# Altium footprint library LoRaUNO868 V2.PcbLib: 23 footprints (part 2 of 2)
Each footprint in its own frame and in the unit in brackets; x right, y up, seen from the top. Pads: shape width x height; smd on the part's side, far side on the other; paste and mask are expansions set on the pad; w line width, h text height; cw(c..) or ccw(c..) is an arc to the next point about the centre after c.
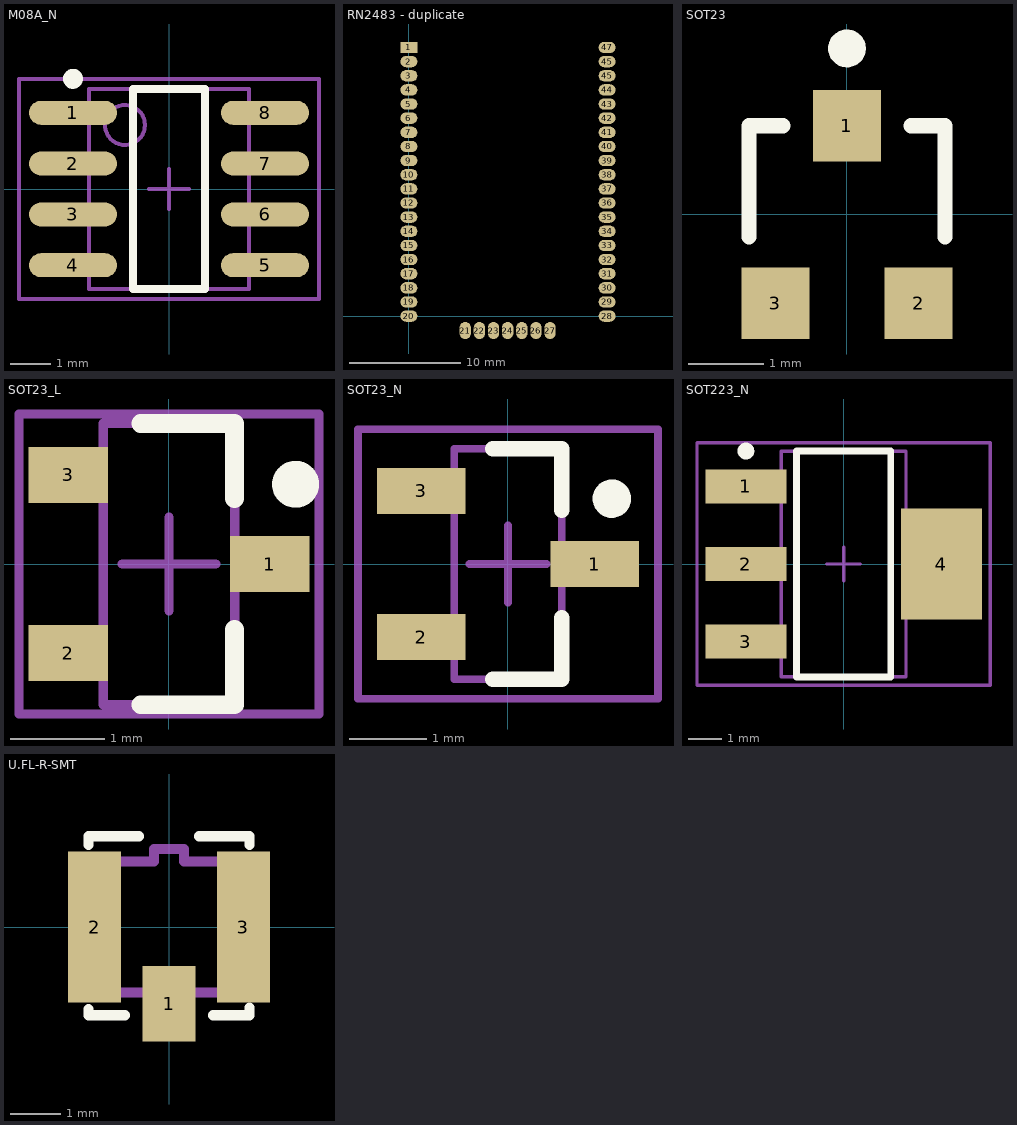
[diagram p1: the footprints below, top view; thin cyan lines are the x and y axes]

## M08A_N [mm] "SOIC, 8-Leads, Body 4.9x3.9mm, Pitch 1.27mm, IPC Medium Density"
height 1.75
pads (8):
  oval 2.2x0.6 smd: 1(-2.4,1.905) 2(-2.4,0.635) 3(-2.4,-0.635) 4(-2.4,-1.905) 5(2.4,-1.905) 6(2.4,-0.635) 7(2.4,0.635) 8(2.4,1.905)
Top Overlay:
  circle w0.25: c-2.4,2.755 r0.125
  lines w0.2: -0.9,-2.5 -0.9,2.5 0.9,2.5 0.9,-2.5 -0.9,-2.5
Mechanical 13:
  circle w0.1: c-1.1,1.6 r0.5
  lines w0.1: -2,-2.5 -2,2.5 2,2.5 2,-2.5 -2,-2.5
Mechanical 15:
  lines w0.1: -0.5,0 0.5,0 ; 0,-0.5 0,0.5 ; -3.75,-2.75 -3.75,2.75 3.75,2.75 3.75,-2.75 -3.75,-2.75
3D body: height 1.75, standoff 0, extent -2,-2.5 2,2.5

## RN2483 - duplicate [mil]
pads (47):
  rect 60x40 smd: 1(0,949.8)
  oval 60x40 smd: 2(0,899.8) 3(0,849.8) 4(0,799.8) 5(0,749.8) 6(0,699.8) 7(0,649.8) 8(0,599.8) 9(0,549.8) 10(0,499.8) 11(0,449.8) 12(0,399.8) 13(0,349.8) 14(0,299.8) 15(0,249.8) 16(0,199.8) 17(0,149.8) 18(0,99.8) 19(0,49.8) 20(0,-0.2) 28(700.79,-0.2) 29(700.79,49.8) 30(700.79,99.8) 31(700.79,149.8) 32(700.79,199.8) 33(700.79,249.8) 34(700.79,299.8) 35(700.79,349.8) 36(700.79,399.8) 37(700.79,449.8) 38(700.79,499.8) 39(700.79,549.8) 40(700.79,599.8) 41(700.79,649.8) 42(700.79,699.8) 43(700.79,749.8) 44(700.79,799.8) 45(700.79,849.8) 45(700.79,899.8) 47(700.79,949.8)
  oval 40x60 smd: 21(199.21,-51.18) 22(249.21,-51.18) 23(299.21,-51.18) 24(349.21,-51.18) 25(399.21,-51.18) 26(449.21,-51.18) 27(499.21,-51.18)
3D body: height 31.5, standoff 0, extent 0,-48.23 699.8,973.43
3D body: height 70.87, standoff 39.37, extent 29.53,48.23 669.29,949.8

## SOT23 [mm] "SOT-23; 3 Leads; Body 3.1 x 2.5 mm, inc. leads (LxW max), Alternate Lead Configuration"
height 1.1
pads (3):
  rect 0.9x0.95 smd: 1(0,1.175) 2(0.95,-1.175) 3(-0.95,-1.175)
Top Overlay:
  circle w0.25: c0,2.2 r0.125
  lines w0.2: -1.3,-0.3 -1.3,1.175 -0.85,1.175 ; 0.85,1.175 1.3,1.175 1.3,-0.3

## SOT23_L [mm] "SOT23, 3-Leads, Body 2.9x1.3mm, Pitch 0.95mm, Lead Span 2.3mm - Reverse Pinning, IPC High Density"
height 1.1
pads (3):
  rect 0.85x0.6 smd: 1(1.075,0) 2(-1.075,-0.95) 3(-1.075,0.95)
Top Overlay:
  circle w0.25: c1.35,0.85 r0.125
  lines w0.2: -0.3,-1.5 0.7,-1.5 0.7,-0.7 ; -0.3,1.5 0.7,1.5 0.7,0.7
Mechanical 13:
  lines w0.1: -0.7,-1.5 -0.7,1.5 0.7,1.5 0.7,-1.5 -0.7,-1.5
Mechanical 15:
  lines w0.1: -0.5,0 0.5,0 ; 0,-0.5 0,0.5 ; -1.6,-1.6 -1.6,1.6 1.6,1.6 1.6,-1.6 -1.6,-1.6
3D body: height 1.1, standoff 0, extent -0.7,-1.5 0.7,1.5

## SOT23_N [mm] "SOT23, 3-Leads, Body 2.9x1.3mm, Pitch 0.95mm, Lead Span 2.3mm - Reverse Pinning, IPC Medium Density"
height 1.1
pads (3):
  rect 1.15x0.6 smd: 1(1.125,0) 2(-1.125,-0.95) 3(-1.125,0.95)
Top Overlay:
  circle w0.25: c1.35,0.85 r0.125
  lines w0.2: -0.2,-1.5 0.7,-1.5 0.7,-0.7 ; -0.2,1.5 0.7,1.5 0.7,0.7
Mechanical 13:
  lines w0.1: -0.7,-1.5 -0.7,1.5 0.7,1.5 0.7,-1.5 -0.7,-1.5
Mechanical 15:
  lines w0.1: -0.5,0 0.5,0 ; 0,-0.5 0,0.5 ; -1.95,-1.75 -1.95,1.75 1.95,1.75 1.95,-1.75 -1.95,-1.75
3D body: height 1.1, standoff 0, extent -0.7,-1.5 0.7,1.5

## SOT223_N [mm] "SOT223, 4-Leads, Body 6.5x3.5mm, Pitch 2.3mm, Lead Span 7mm, IPC Medium Density"
height 1.7
pads (4):
  rect 2.4x1 smd: 1(-2.9,2.3) 2(-2.9,0) 3(-2.9,-2.3)
  rect 2.4x3.3 smd: 4(2.9,0)
Top Overlay:
  circle w0.25: c-2.9,3.35 r0.125
  lines w0.2: -1.4,-3.35 1.4,-3.35 1.4,3.35 -1.4,3.35 -1.4,-3.35
Mechanical 13:
  lines w0.1: -1.85,-3.35 1.85,-3.35 1.85,3.35 -1.85,3.35 -1.85,-3.35
Mechanical 15:
  lines w0.1: -0.5,0 0.5,0 ; 0,-0.5 0,0.5 ; -4.35,-3.6 4.35,-3.6 4.35,3.6 -4.35,3.6 -4.35,-3.6
3D body: height 1.7, standoff 0, extent -1.85,-3.35 1.85,3.35

## U.FL-R-SMT [mm]
height 6.95
pads (3):
  rect 1.05x1.5 smd: 1(0,-1.525)
  rect 1.05x3 smd: 2(-1.475,0) 3(1.475,0)
Top Overlay:
  lines w0.2: -1.6,-1.625 -1.6,-1.75 -0.875,-1.75 ; -1.6,1.625 -1.6,1.8 -0.6,1.8 ; 0.6,1.8 1.6,1.8 1.6,1.625 ; 0.875,-1.75 1.6,-1.75 1.6,-1.6
Mechanical 3:
  lines w0.2: -1.311,-0.9 -1.5,-0.9 -1.5,0.9 -1.311,0.9 ; -1.3,-0.9 -1.3,-1.3 -0.33,-1.3 ; -1.3,0.9 -1.3,1.3 -0.3,1.3 -0.3,1.55 0.3,1.55 0.3,1.3 1.3,1.3 1.3,0.9 ; -0.3,-1.3 -0.3,-1.55 0.3,-1.55 0.3,-1.3 ; 0.33,-1.3 1.3,-1.3 1.3,-0.9 ; 1.311,-0.9 1.5,-0.9 1.5,0.9 1.311,0.9
3D body: height 1.25, standoff 0, extent -0.992,-0.998 1,0.998
3D body: height 0.35, standoff 0, extent -1.5,-1.55 1.5,1.55